# Altium footprint library CON_EHF-110-01-F-D.PcbLib: 1 footprints
Each footprint in its own frame and in the unit in brackets; x right, y up, seen from the top. Pads: shape width x height; smd on the part's side, far side on the other; paste and mask are expansions set on the pad; w line width, h text height; cw(c..) or ccw(c..) is an arc to the next point about the centre after c.
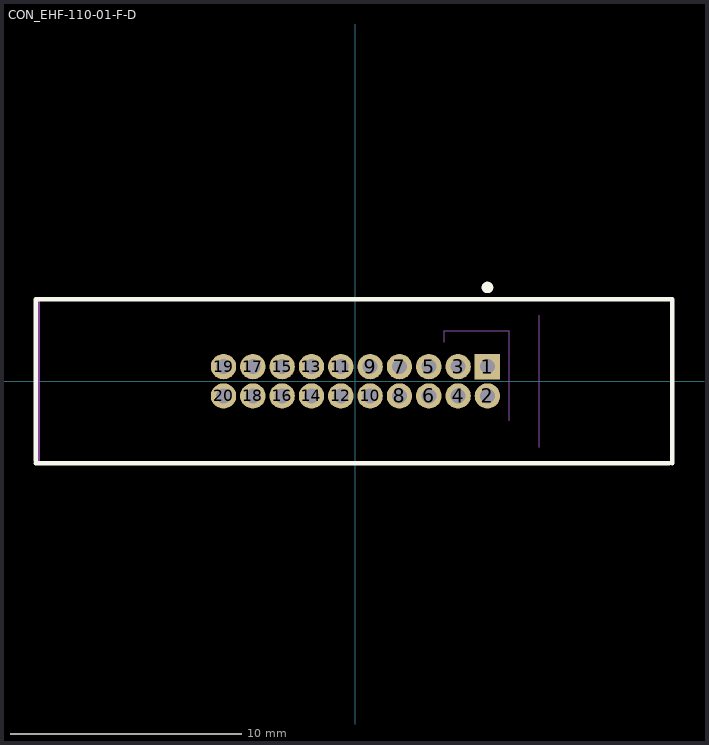
[diagram p0: the footprint, top view; thin cyan lines are the x and y axes]

## CON_EHF-110-01-F-D [mm] "0.050\" pitch, 20 pin, terminal strip;"
height 5.59
pads (20):
  rect 1.1x1.1 hole 0.65 unplated mask+0: 1(5.715,0.635)
  round 1.1 hole 0.65 unplated mask+0: 2(5.715,-0.635) 3(4.445,0.635) 4(4.445,-0.635) 5(3.175,0.635) 6(3.175,-0.635) 7(1.905,0.635) 8(1.905,-0.635) 9(0.635,0.635) 10(0.635,-0.635) 11(-0.635,0.635) 12(-0.635,-0.635) 13(-1.905,0.635) 14(-1.905,-0.635) 15(-3.175,0.635) 16(-3.175,-0.635) 17(-4.445,0.635) 18(-4.445,-0.635) 19(-5.715,0.635) 20(-5.715,-0.635)
Top Overlay:
  circle w0.25: c5.717,4.064 r0.125
  lines w0.2: -13.843,-3.556 13.589,-3.556 ; -13.843,-3.429 -13.843,3.556 13.716,3.556 13.716,-3.556
Mechanical 12:
  lines w0.001: 3.85,1.702 3.85,2.2 6.65,2.2 6.65,-1.7 ; 7.95,-2.85 7.95,2.85
Mechanical 13:
  lines w0.1: -13.716,-3.556 -13.716,3.556 13.716,3.556 13.716,-3.556 -13.716,-3.556
3D body: height 11.37, standoff -2.65, extent -13.589,-3.334 13.589,3.334